# Altium schematic symbol library 1G86.SchLib: 1 symbol
Pins are listed as number, name and electrical type; pins without a type are passive.

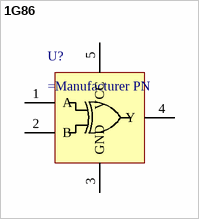
[diagram p0: symbol 1G86]

## 1G86
designator U?
pins: 1 A, 2 B, 3 GND, 4 Y, 5 VCC